# Altium schematic symbol library CRCW080545K3FKEA.SchLib: 1 symbol
Pins are listed as number, name and electrical type; pins without a type are passive.

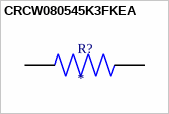
[diagram p0: symbol CRCW080545K3FKEA]

## CRCW080545K3FKEA
designator R?
D12/Crcw0805 100 45K3 1% Et1 E3; MP: CRCW080545K3FKEA; Package: None; Price: None; Value: *; Availability: Unavailable
footprint RESC2012X50N
pins: 1, 2